# EAGLE library part 74HC165 (library pedalier)
8-bit parallel load SHIFT REGISTER
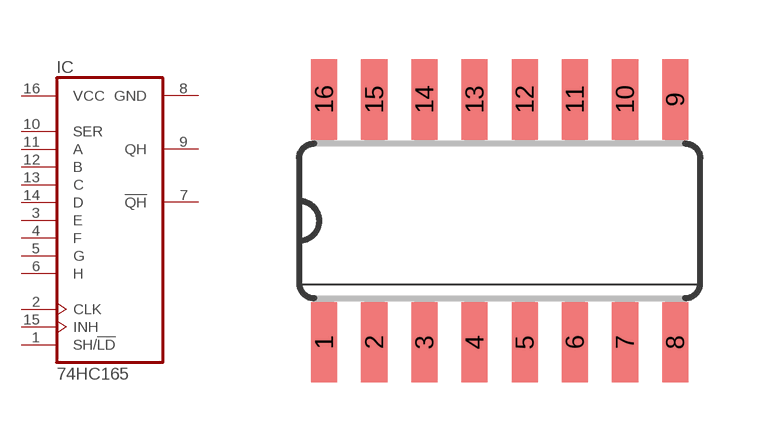
[diagram p1: symbol with the pads of SO16; footprint SO16]

Designator prefix IC

## 74HC165D  [SO16]
1  SH/!LD  in
2  CLK  in
3  E  in
4  F  in
5  G  in
6  H  in
7  !QH  out
8  GND
9  QH  out
10  SER  in
11  A  in
12  B  in
13  C  in
14  D  in
15  INH  in
16  VCC

## Footprint SO16 (pad centres in mm)
Small Outline package 150 mil
smd 0.66 x 2.032: 1 -4.445,-3.073; 2 -3.175,-3.073; 3 -1.905,-3.073; 4 -0.635,-3.073; 5 0.635,-3.073; 6 1.905,-3.073; 7 3.175,-3.073; 8 4.445,-3.073; 9 4.445,3.073; 10 3.175,3.073; 11 1.905,3.073; 12 0.635,3.073; 13 -0.635,3.073; 14 -1.905,3.073; 15 -3.175,3.073; 16 -4.445,3.073